# EAGLE library part LTC3901 (library PowerProducts)
LT-Spice library generated with : ltspice.ulp from: D:/Program Files (x86)/LTC/LTspiceIV/lib/sym/PowerProducts/LTM8020*.asy at 07.10.2012 18:50:08
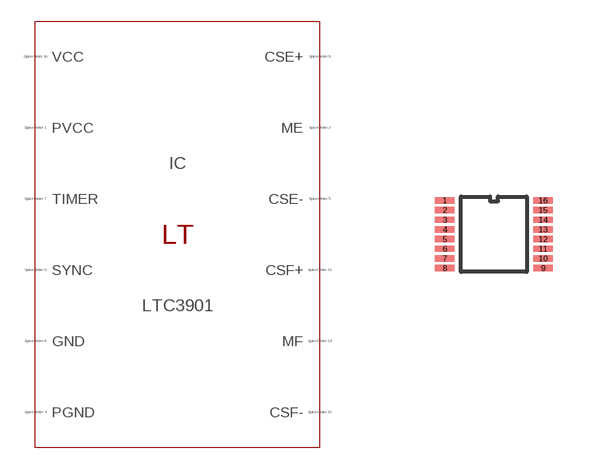
[diagram p397: symbol with the pads of SSOP16(GN); footprint SSOP16(GN)]

Designator prefix IC

## LTC3901 (SPICEMODEL: LTC3901.sub; SPICEPREFIX: X; VALUE2: LTC3901)  [SSOP16(GN)]
1  PVCC  pas
2  ME  pas
3  ME  pas
4  PGND  pas
5  CSE-  pas
6  CSE+  pas
7  TIMER  pas
8  GND  pas
9  SYNC  pas
10  GND  pas
11  CSF+  pas
12  CSF-  pas
13  PGND  pas
14  MF  pas
15  MF  pas
16  VCC  pas

## Footprint SSOP16(GN) (pad centres in mm)
Package generated from: SSOP16(GN).asc (!PADS-POWERPCB-V5.0-BASIC! DESIGN DATABASE ASCII FILE 1.0) with :import-pads-powerpcb-v5.ulp Version 1.0.1 at 04.10.2012 14:11:37
smd 0.484 x 0.16: 1 -1.229,0.847; 2 -1.229,0.605; 3 -1.229,0.363; 4 -1.229,0.121; 5 -1.229,-0.121; 6 -1.229,-0.363; 7 -1.229,-0.605; 8 -1.229,-0.847; 9 1.229,-0.847; 10 1.229,-0.605; 11 1.229,-0.363; 12 1.229,-0.121; 13 1.229,0.121; 14 1.229,0.363; 15 1.229,0.605; 16 1.229,0.847